# Altium footprint library Motorola Footprints.PcbLib: 408 footprints (part 16 of 26)
Each footprint in its own frame and in the unit in brackets; x right, y up, seen from the top. Pads: shape width x height; smd on the part's side, far side on the other; paste and mask are expansions set on the pad; w line width, h text height; cw(c..) or ccw(c..) is an arc to the next point about the centre after c.
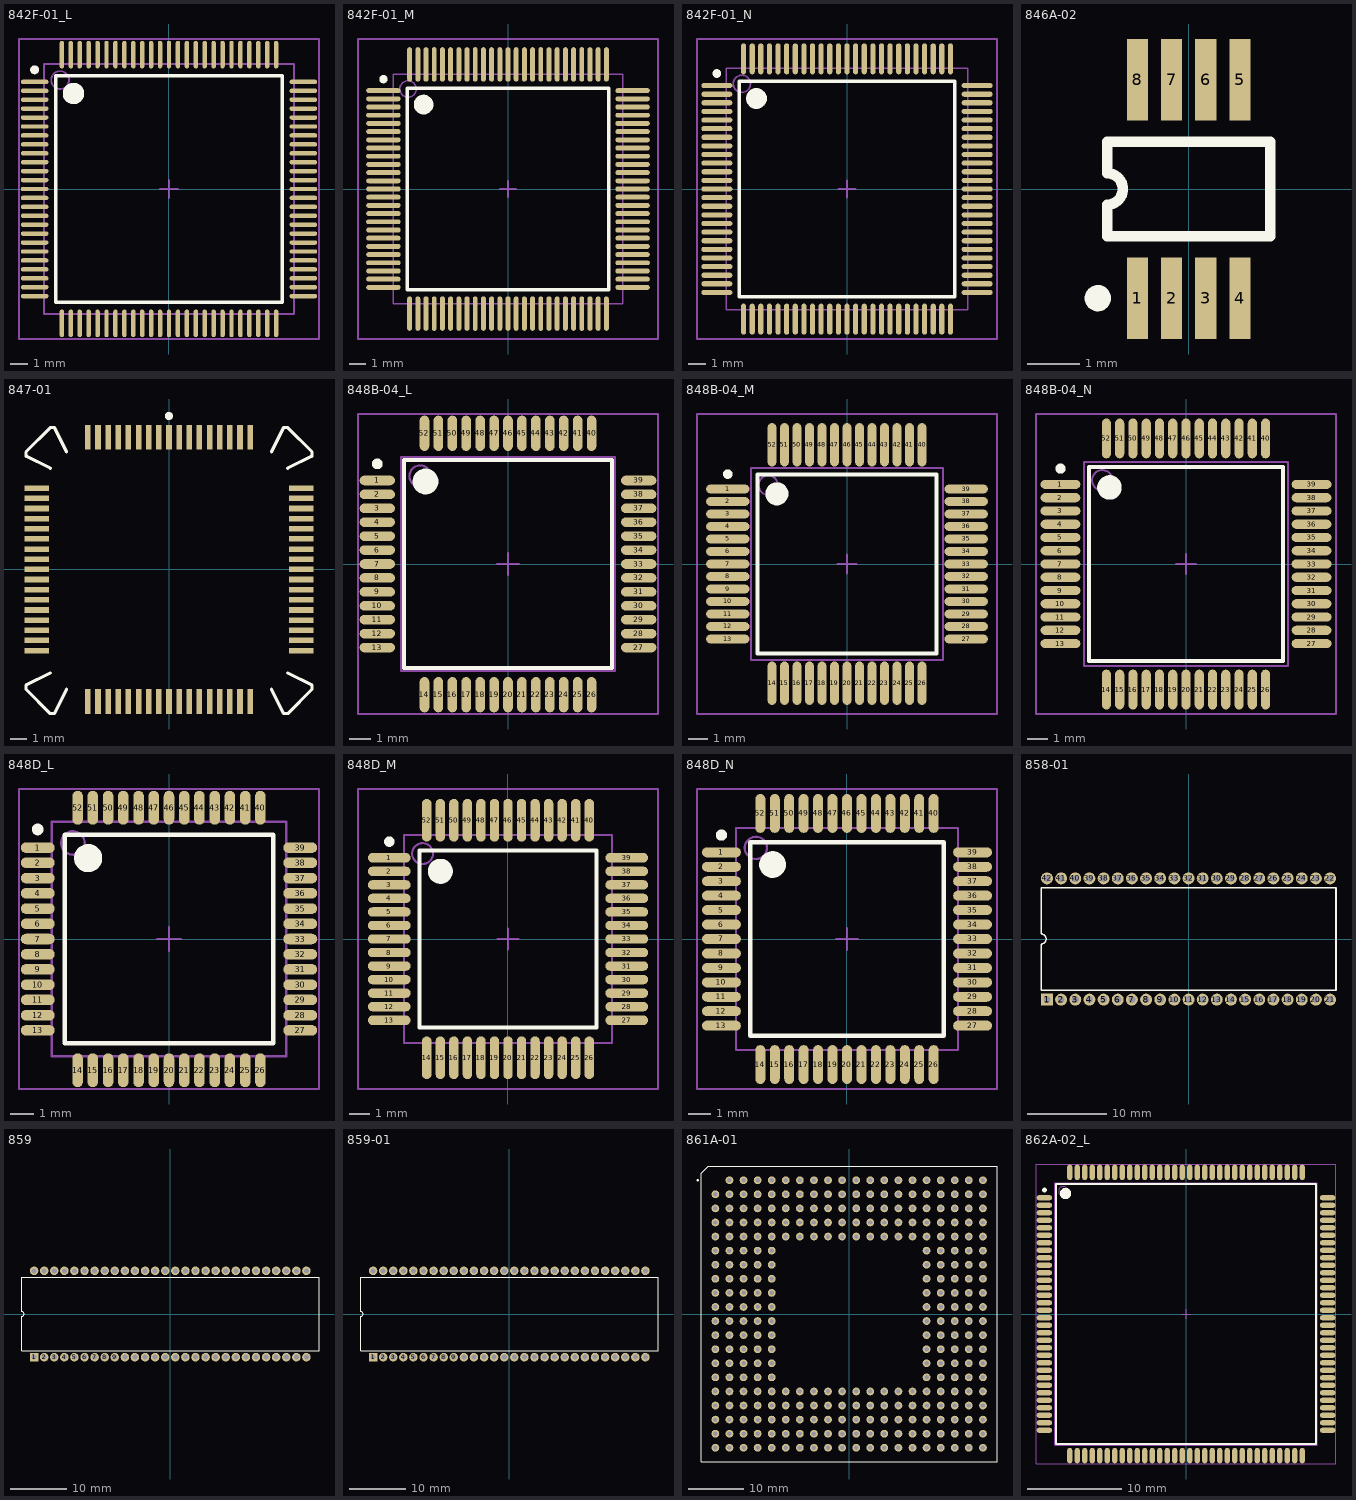
[diagram p15: the footprints below, top view; thin cyan lines are the x and y axes]

## 842F-01_L [mm] "100-Pin Thin Quad Flat Pack 0.5 mm Pitch, IPC High Density"
height 1.6
pads (100):
  oval 1.55x0.25 smd: 1(-7.525,6) 2(-7.525,5.5) 3(-7.525,5) 4(-7.525,4.5) 5(-7.525,4) 6(-7.525,3.5) 7(-7.525,3) 8(-7.525,2.5) 9(-7.525,2) 10(-7.525,1.5) 11(-7.525,1) 12(-7.525,0.5) 13(-7.525,0) 14(-7.525,-0.5) 15(-7.525,-1) 16(-7.525,-1.5) 17(-7.525,-2) 18(-7.525,-2.5) 19(-7.525,-3) 20(-7.525,-3.5) 21(-7.525,-4) 22(-7.525,-4.5) 23(-7.525,-5) 24(-7.525,-5.5) 25(-7.525,-6) 51(7.525,-6) 52(7.525,-5.5) 53(7.525,-5) 54(7.525,-4.5) 55(7.525,-4) 56(7.525,-3.5) 57(7.525,-3) 58(7.525,-2.5) 59(7.525,-2) 60(7.525,-1.5) 61(7.525,-1) 62(7.525,-0.5) 63(7.525,0) 64(7.525,0.5) 65(7.525,1) 66(7.525,1.5) 67(7.525,2) 68(7.525,2.5) 69(7.525,3) 70(7.525,3.5) 71(7.525,4) 72(7.525,4.5) 73(7.525,5) 74(7.525,5.5) 75(7.525,6)
  oval 0.25x1.55 smd: 26(-6,-7.525) 27(-5.5,-7.525) 28(-5,-7.525) 29(-4.5,-7.525) 30(-4,-7.525) 31(-3.5,-7.525) 32(-3,-7.525) 33(-2.5,-7.525) 34(-2,-7.525) 35(-1.5,-7.525) 36(-1,-7.525) 37(-0.5,-7.525) 38(0,-7.525) 39(0.5,-7.525) 40(1,-7.525) 41(1.5,-7.525) 42(2,-7.525) 43(2.5,-7.525) 44(3,-7.525) 45(3.5,-7.525) 46(4,-7.525) 47(4.5,-7.525) 48(5,-7.525) 49(5.5,-7.525) 50(6,-7.525) 76(6,7.525) 77(5.5,7.525) 78(5,7.525) 79(4.5,7.525) 80(4,7.525) 81(3.5,7.525) 82(3,7.525) 83(2.5,7.525) 84(2,7.525) 85(1.5,7.525) 86(1,7.525) 87(0.5,7.525) 88(0,7.525) 89(-0.5,7.525) 90(-1,7.525) 91(-1.5,7.525) 92(-2,7.525) 93(-2.5,7.525) 94(-3,7.525) 95(-3.5,7.525) 96(-4,7.525) 97(-4.5,7.525) 98(-5,7.525) 99(-5.5,7.525) 100(-6,7.525)
Top Overlay:
  circle w0.6: c-5.35,5.35 r0.3
  circle w0.25: c-7.525,6.675 r0.125
  lines w0.2: -6.35,-6.35 6.35,-6.35 6.35,6.35 -6.35,6.35 -6.35,-6.35
Mechanical 13:
  circle w0.1: c-6.1,6.1 r0.5
  lines w0.1: -7,-7 7,-7 7,7 -7,7 -7,-7
Mechanical 15:
  lines w0.1: -0.5,0 0.5,0 ; 0,-0.5 0,0.5 ; -8.4,-8.4 8.4,-8.4 8.4,8.4 -8.4,8.4 -8.4,-8.4
3D body: height 1.6, standoff 0, extent -7,-7 7,7

## 842F-01_M [mm] "100-Pin Thin Quad Flat Pack 0.5 mm Pitch, IPC Low Density"
height 1.6
pads (100):
  oval 2.1x0.3 smd: 1(-7.6,6) 2(-7.6,5.5) 3(-7.6,5) 4(-7.6,4.5) 5(-7.6,4) 6(-7.6,3.5) 7(-7.6,3) 8(-7.6,2.5) 9(-7.6,2) 10(-7.6,1.5) 11(-7.6,1) 12(-7.6,0.5) 13(-7.6,0) 14(-7.6,-0.5) 15(-7.6,-1) 16(-7.6,-1.5) 17(-7.6,-2) 18(-7.6,-2.5) 19(-7.6,-3) 20(-7.6,-3.5) 21(-7.6,-4) 22(-7.6,-4.5) 23(-7.6,-5) 24(-7.6,-5.5) 25(-7.6,-6) 51(7.6,-6) 52(7.6,-5.5) 53(7.6,-5) 54(7.6,-4.5) 55(7.6,-4) 56(7.6,-3.5) 57(7.6,-3) 58(7.6,-2.5) 59(7.6,-2) 60(7.6,-1.5) 61(7.6,-1) 62(7.6,-0.5) 63(7.6,0) 64(7.6,0.5) 65(7.6,1) 66(7.6,1.5) 67(7.6,2) 68(7.6,2.5) 69(7.6,3) 70(7.6,3.5) 71(7.6,4) 72(7.6,4.5) 73(7.6,5) 74(7.6,5.5) 75(7.6,6)
  oval 0.3x2.1 smd: 26(-6,-7.6) 27(-5.5,-7.6) 28(-5,-7.6) 29(-4.5,-7.6) 30(-4,-7.6) 31(-3.5,-7.6) 32(-3,-7.6) 33(-2.5,-7.6) 34(-2,-7.6) 35(-1.5,-7.6) 36(-1,-7.6) 37(-0.5,-7.6) 38(0,-7.6) 39(0.5,-7.6) 40(1,-7.6) 41(1.5,-7.6) 42(2,-7.6) 43(2.5,-7.6) 44(3,-7.6) 45(3.5,-7.6) 46(4,-7.6) 47(4.5,-7.6) 48(5,-7.6) 49(5.5,-7.6) 50(6,-7.6) 76(6,7.6) 77(5.5,7.6) 78(5,7.6) 79(4.5,7.6) 80(4,7.6) 81(3.5,7.6) 82(3,7.6) 83(2.5,7.6) 84(2,7.6) 85(1.5,7.6) 86(1,7.6) 87(0.5,7.6) 88(0,7.6) 89(-0.5,7.6) 90(-1,7.6) 91(-1.5,7.6) 92(-2,7.6) 93(-2.5,7.6) 94(-3,7.6) 95(-3.5,7.6) 96(-4,7.6) 97(-4.5,7.6) 98(-5,7.6) 99(-5.5,7.6) 100(-6,7.6)
Top Overlay:
  circle w0.6: c-5.15,5.15 r0.3
  circle w0.25: c-7.6,6.7 r0.125
  lines w0.2: -6.15,-6.15 6.15,-6.15 6.15,6.15 -6.15,6.15 -6.15,-6.15
Mechanical 13:
  circle w0.1: c-6.1,6.1 r0.5
  lines w0.1: -7,-7 7,-7 7,7 -7,7 -7,-7
Mechanical 15:
  lines w0.1: -0.5,0 0.5,0 ; 0,-0.5 0,0.5 ; -9.15,-9.15 9.15,-9.15 9.15,9.15 -9.15,9.15 -9.15,-9.15
3D body: height 1.6, standoff 0, extent -7,-7 7,7

## 842F-01_N [mm] "100-Pin Thin Quad Flat Pack 0.5 mm Pitch, IPC Medium Density"
height 1.6
pads (100):
  oval 1.8x0.3 smd: 1(-7.55,6) 2(-7.55,5.5) 3(-7.55,5) 4(-7.55,4.5) 5(-7.55,4) 6(-7.55,3.5) 7(-7.55,3) 8(-7.55,2.5) 9(-7.55,2) 10(-7.55,1.5) 11(-7.55,1) 12(-7.55,0.5) 13(-7.55,0) 14(-7.55,-0.5) 15(-7.55,-1) 16(-7.55,-1.5) 17(-7.55,-2) 18(-7.55,-2.5) 19(-7.55,-3) 20(-7.55,-3.5) 21(-7.55,-4) 22(-7.55,-4.5) 23(-7.55,-5) 24(-7.55,-5.5) 25(-7.55,-6) 51(7.55,-6) 52(7.55,-5.5) 53(7.55,-5) 54(7.55,-4.5) 55(7.55,-4) 56(7.55,-3.5) 57(7.55,-3) 58(7.55,-2.5) 59(7.55,-2) 60(7.55,-1.5) 61(7.55,-1) 62(7.55,-0.5) 63(7.55,0) 64(7.55,0.5) 65(7.55,1) 66(7.55,1.5) 67(7.55,2) 68(7.55,2.5) 69(7.55,3) 70(7.55,3.5) 71(7.55,4) 72(7.55,4.5) 73(7.55,5) 74(7.55,5.5) 75(7.55,6)
  oval 0.3x1.8 smd: 26(-6,-7.55) 27(-5.5,-7.55) 28(-5,-7.55) 29(-4.5,-7.55) 30(-4,-7.55) 31(-3.5,-7.55) 32(-3,-7.55) 33(-2.5,-7.55) 34(-2,-7.55) 35(-1.5,-7.55) 36(-1,-7.55) 37(-0.5,-7.55) 38(0,-7.55) 39(0.5,-7.55) 40(1,-7.55) 41(1.5,-7.55) 42(2,-7.55) 43(2.5,-7.55) 44(3,-7.55) 45(3.5,-7.55) 46(4,-7.55) 47(4.5,-7.55) 48(5,-7.55) 49(5.5,-7.55) 50(6,-7.55) 76(6,7.55) 77(5.5,7.55) 78(5,7.55) 79(4.5,7.55) 80(4,7.55) 81(3.5,7.55) 82(3,7.55) 83(2.5,7.55) 84(2,7.55) 85(1.5,7.55) 86(1,7.55) 87(0.5,7.55) 88(0,7.55) 89(-0.5,7.55) 90(-1,7.55) 91(-1.5,7.55) 92(-2,7.55) 93(-2.5,7.55) 94(-3,7.55) 95(-3.5,7.55) 96(-4,7.55) 97(-4.5,7.55) 98(-5,7.55) 99(-5.5,7.55) 100(-6,7.55)
Top Overlay:
  circle w0.6: c-5.25,5.25 r0.3
  circle w0.25: c-7.55,6.7 r0.125
  lines w0.2: -6.25,-6.25 6.25,-6.25 6.25,6.25 -6.25,6.25 -6.25,-6.25
Mechanical 13:
  circle w0.1: c-6.1,6.1 r0.5
  lines w0.1: -7,-7 7,-7 7,7 -7,7 -7,-7
Mechanical 15:
  lines w0.1: -0.5,0 0.5,0 ; 0,-0.5 0,0.5 ; -8.7,-8.7 8.7,-8.7 8.7,8.7 -8.7,8.7 -8.7,-8.7
3D body: height 1.6, standoff 0, extent -7,-7 7,7

## 846A-02 [mm] "Shrink Small Outline; 8 Leads; Body Width 3 mm; Pitch 0.65 mm"
height 1.1
pads (8):
  rect 0.4x1.55 smd: 1(-0.975,-2.075) 2(-0.325,-2.075) 3(0.325,-2.075) 4(0.975,-2.075) 5(0.975,2.075) 6(0.325,2.075) 7(-0.325,2.075) 8(-0.975,2.075)
Top Overlay:
  circle w0.25: c-1.725,-2.075 r0.125
  lines w0.2: -1.55,-0.9 1.55,-0.9 1.55,0.9 -1.55,0.9 -1.55,0.3 cw(c-1.55,0) -1.55,-0.3 -1.55,-0.9

## 847-01 [mm] "PQFP; 68 Leads; Body 14 x 14 mm; Pitch 0.635 mm"
height 3.04
pads (68):
  rect 0.35x1.55 smd: 1(0,8.275) 2(-0.635,8.275) 3(-1.27,8.275) 4(-1.905,8.275) 5(-2.54,8.275) 6(-3.175,8.275) 7(-3.81,8.275) 8(-4.445,8.275) 9(-5.08,8.275) 27(-5.08,-8.275) 28(-4.445,-8.275) 29(-3.81,-8.275) 30(-3.175,-8.275) 31(-2.54,-8.275) 32(-1.905,-8.275) 33(-1.27,-8.275) 34(-0.635,-8.275) 35(0,-8.275) 36(0.635,-8.275) 37(1.27,-8.275) 38(1.905,-8.275) 39(2.54,-8.275) 40(3.175,-8.275) 41(3.81,-8.275) 42(4.445,-8.275) 43(5.08,-8.275) 61(5.08,8.275) 62(4.445,8.275) 63(3.81,8.275) 64(3.175,8.275) 65(2.54,8.275) 66(1.905,8.275) 67(1.27,8.275) 68(0.635,8.275)
  rect 1.55x0.35 smd: 10(-8.275,5.08) 11(-8.275,4.445) 12(-8.275,3.81) 13(-8.275,3.175) 14(-8.275,2.54) 15(-8.275,1.905) 16(-8.275,1.27) 17(-8.275,0.635) 18(-8.275,0) 19(-8.275,-0.635) 20(-8.275,-1.27) 21(-8.275,-1.905) 22(-8.275,-2.54) 23(-8.275,-3.175) 24(-8.275,-3.81) 25(-8.275,-4.445) 26(-8.275,-5.08) 44(8.275,-5.08) 45(8.275,-4.445) 46(8.275,-3.81) 47(8.275,-3.175) 48(8.275,-2.54) 49(8.275,-1.905) 50(8.275,-1.27) 51(8.275,-0.635) 52(8.275,0) 53(8.275,0.635) 54(8.275,1.27) 55(8.275,1.905) 56(8.275,2.54) 57(8.275,3.175) 58(8.275,3.81) 59(8.275,4.445) 60(8.275,5.08)
Top Overlay:
  circle w0.25: c0,9.6 r0.125
  lines w0.2: -8.95,-7.247 -7.426,-6.485 ; -8.95,-7.229 -8.95,-7.501 -7.426,-9.025 -7.172,-9.025 -6.41,-7.501 ; -8.95,7.079 -8.95,7.351 -7.426,8.875 -7.172,8.875 -6.41,7.351 ; -8.95,7.097 -7.426,6.335 ; 6.41,-7.501 7.172,-9.025 7.426,-9.025 8.95,-7.501 8.95,-7.229 ; 6.41,7.351 7.172,8.875 7.426,8.875 8.95,7.351 8.95,7.079 ; 7.426,-6.485 8.95,-7.247 ; 7.426,6.335 8.95,7.097

## 848B-04_L [mm] "52-Pin Quad Flat Pack 0.65 mm Pitch, IPC High Density"
height 2.45
pads (52):
  oval 1.65x0.45 smd: 1(-6.1,3.9) 2(-6.1,3.25) 3(-6.1,2.6) 4(-6.1,1.95) 5(-6.1,1.3) 6(-6.1,0.65) 7(-6.1,0) 8(-6.1,-0.65) 9(-6.1,-1.3) 10(-6.1,-1.95) 11(-6.1,-2.6) 12(-6.1,-3.25) 13(-6.1,-3.9) 27(6.1,-3.9) 28(6.1,-3.25) 29(6.1,-2.6) 30(6.1,-1.95) 31(6.1,-1.3) 32(6.1,-0.65) 33(6.1,0) 34(6.1,0.65) 35(6.1,1.3) 36(6.1,1.95) 37(6.1,2.6) 38(6.1,3.25) 39(6.1,3.9)
  oval 0.45x1.65 smd: 14(-3.9,-6.1) 15(-3.25,-6.1) 16(-2.6,-6.1) 17(-1.95,-6.1) 18(-1.3,-6.1) 19(-0.65,-6.1) 20(0,-6.1) 21(0.65,-6.1) 22(1.3,-6.1) 23(1.95,-6.1) 24(2.6,-6.1) 25(3.25,-6.1) 26(3.9,-6.1) 40(3.9,6.1) 41(3.25,6.1) 42(2.6,6.1) 43(1.95,6.1) 44(1.3,6.1) 45(0.65,6.1) 46(0,6.1) 47(-0.65,6.1) 48(-1.3,6.1) 49(-1.95,6.1) 50(-2.6,6.1) 51(-3.25,6.1) 52(-3.9,6.1)
Top Overlay:
  circle w0.6: c-3.85,3.85 r0.3
  circle w0.25: c-6.1,4.675 r0.125
  lines w0.2: -4.85,-4.85 4.85,-4.85 4.85,4.85 -4.85,4.85 -4.85,-4.85
Mechanical 13:
  circle w0.1: c-4.1,4.1 r0.5
  lines w0.1: -5,-5 5,-5 5,5 -5,5 -5,-5
Mechanical 15:
  lines w0.1: -0.5,0 0.5,0 ; 0,-0.5 0,0.5 ; -7,-7 7,-7 7,7 -7,7 -7,-7
3D body: height 2.45, standoff 0, extent -5,-5 5,5

## 848B-04_M [mm] "52-Pin Quad Flat Pack 0.65 mm Pitch, IPC Low Density"
height 2.45
pads (52):
  oval 2.25x0.45 smd: 1(-6.2,3.9) 2(-6.2,3.25) 3(-6.2,2.6) 4(-6.2,1.95) 5(-6.2,1.3) 6(-6.2,0.65) 7(-6.2,0) 8(-6.2,-0.65) 9(-6.2,-1.3) 10(-6.2,-1.95) 11(-6.2,-2.6) 12(-6.2,-3.25) 13(-6.2,-3.9) 27(6.2,-3.9) 28(6.2,-3.25) 29(6.2,-2.6) 30(6.2,-1.95) 31(6.2,-1.3) 32(6.2,-0.65) 33(6.2,0) 34(6.2,0.65) 35(6.2,1.3) 36(6.2,1.95) 37(6.2,2.6) 38(6.2,3.25) 39(6.2,3.9)
  oval 0.45x2.25 smd: 14(-3.9,-6.2) 15(-3.25,-6.2) 16(-2.6,-6.2) 17(-1.95,-6.2) 18(-1.3,-6.2) 19(-0.65,-6.2) 20(0,-6.2) 21(0.65,-6.2) 22(1.3,-6.2) 23(1.95,-6.2) 24(2.6,-6.2) 25(3.25,-6.2) 26(3.9,-6.2) 40(3.9,6.2) 41(3.25,6.2) 42(2.6,6.2) 43(1.95,6.2) 44(1.3,6.2) 45(0.65,6.2) 46(0,6.2) 47(-0.65,6.2) 48(-1.3,6.2) 49(-1.95,6.2) 50(-2.6,6.2) 51(-3.25,6.2) 52(-3.9,6.2)
Top Overlay:
  circle w0.6: c-3.65,3.65 r0.3
  circle w0.25: c-6.2,4.675 r0.125
  lines w0.2: -4.65,-4.65 4.65,-4.65 4.65,4.65 -4.65,4.65 -4.65,-4.65
Mechanical 13:
  circle w0.1: c-4.1,4.1 r0.5
  lines w0.1: -5,-5 5,-5 5,5 -5,5 -5,-5
Mechanical 15:
  lines w0.1: -0.5,0 0.5,0 ; 0,-0.5 0,0.5 ; -7.8,-7.8 7.8,-7.8 7.8,7.8 -7.8,7.8 -7.8,-7.8
3D body: height 2.45, standoff 0, extent -5,-5 5,5

## 848B-04_N [mm] "52-Pin Quad Flat Pack 0.65 mm Pitch, IPC Medium Density"
height 2.45
pads (52):
  oval 1.95x0.45 smd: 1(-6.15,3.9) 2(-6.15,3.25) 3(-6.15,2.6) 4(-6.15,1.95) 5(-6.15,1.3) 6(-6.15,0.65) 7(-6.15,0) 8(-6.15,-0.65) 9(-6.15,-1.3) 10(-6.15,-1.95) 11(-6.15,-2.6) 12(-6.15,-3.25) 13(-6.15,-3.9) 27(6.15,-3.9) 28(6.15,-3.25) 29(6.15,-2.6) 30(6.15,-1.95) 31(6.15,-1.3) 32(6.15,-0.65) 33(6.15,0) 34(6.15,0.65) 35(6.15,1.3) 36(6.15,1.95) 37(6.15,2.6) 38(6.15,3.25) 39(6.15,3.9)
  oval 0.45x1.95 smd: 14(-3.9,-6.15) 15(-3.25,-6.15) 16(-2.6,-6.15) 17(-1.95,-6.15) 18(-1.3,-6.15) 19(-0.65,-6.15) 20(0,-6.15) 21(0.65,-6.15) 22(1.3,-6.15) 23(1.95,-6.15) 24(2.6,-6.15) 25(3.25,-6.15) 26(3.9,-6.15) 40(3.9,6.15) 41(3.25,6.15) 42(2.6,6.15) 43(1.95,6.15) 44(1.3,6.15) 45(0.65,6.15) 46(0,6.15) 47(-0.65,6.15) 48(-1.3,6.15) 49(-1.95,6.15) 50(-2.6,6.15) 51(-3.25,6.15) 52(-3.9,6.15)
Top Overlay:
  circle w0.6: c-3.75,3.75 r0.3
  circle w0.25: c-6.15,4.675 r0.125
  lines w0.2: -4.75,-4.75 4.75,-4.75 4.75,4.75 -4.75,4.75 -4.75,-4.75
Mechanical 13:
  circle w0.1: c-4.1,4.1 r0.5
  lines w0.1: -5,-5 5,-5 5,5 -5,5 -5,-5
Mechanical 15:
  lines w0.1: -0.5,0 0.5,0 ; 0,-0.5 0,0.5 ; -7.35,-7.35 7.35,-7.35 7.35,7.35 -7.35,7.35 -7.35,-7.35
3D body: height 2.45, standoff 0, extent -5,-5 5,5

## 848D_L [mm] "52-Pin Quad Flat Pack 0.65 mm Pitch, IPC High Density"
height 1.7
pads (52):
  oval 1.45x0.45 smd: 1(-5.6,3.9) 2(-5.6,3.25) 3(-5.6,2.6) 4(-5.6,1.95) 5(-5.6,1.3) 6(-5.6,0.65) 7(-5.6,0) 8(-5.6,-0.65) 9(-5.6,-1.3) 10(-5.6,-1.95) 11(-5.6,-2.6) 12(-5.6,-3.25) 13(-5.6,-3.9) 27(5.6,-3.9) 28(5.6,-3.25) 29(5.6,-2.6) 30(5.6,-1.95) 31(5.6,-1.3) 32(5.6,-0.65) 33(5.6,0) 34(5.6,0.65) 35(5.6,1.3) 36(5.6,1.95) 37(5.6,2.6) 38(5.6,3.25) 39(5.6,3.9)
  oval 0.45x1.45 smd: 14(-3.9,-5.6) 15(-3.25,-5.6) 16(-2.6,-5.6) 17(-1.95,-5.6) 18(-1.3,-5.6) 19(-0.65,-5.6) 20(0,-5.6) 21(0.65,-5.6) 22(1.3,-5.6) 23(1.95,-5.6) 24(2.6,-5.6) 25(3.25,-5.6) 26(3.9,-5.6) 40(3.9,5.6) 41(3.25,5.6) 42(2.6,5.6) 43(1.95,5.6) 44(1.3,5.6) 45(0.65,5.6) 46(0,5.6) 47(-0.65,5.6) 48(-1.3,5.6) 49(-1.95,5.6) 50(-2.6,5.6) 51(-3.25,5.6) 52(-3.9,5.6)
Top Overlay:
  circle w0.6: c-3.45,3.45 r0.3
  circle w0.25: c-5.6,4.675 r0.125
  lines w0.2: -4.45,-4.45 4.45,-4.45 4.45,4.45 -4.45,4.45 -4.45,-4.45
Mechanical 13:
  circle w0.1: c-4.1,4.1 r0.5
  lines w0.1: -5,-5 5,-5 5,5 -5,5 -5,-5
Mechanical 15:
  lines w0.1: -0.5,0 0.5,0 ; 0,-0.5 0,0.5 ; -6.4,-6.4 6.4,-6.4 6.4,6.4 -6.4,6.4 -6.4,-6.4
3D body: height 1.7, standoff 0, extent -5,-5 5,5

## 848D_M [mm] "52-Pin Quad Flat Pack 0.65 mm Pitch, IPC Low Density"
height 1.7
pads (52):
  oval 2.05x0.45 smd: 1(-5.7,3.9) 2(-5.7,3.25) 3(-5.7,2.6) 4(-5.7,1.95) 5(-5.7,1.3) 6(-5.7,0.65) 7(-5.7,0) 8(-5.7,-0.65) 9(-5.7,-1.3) 10(-5.7,-1.95) 11(-5.7,-2.6) 12(-5.7,-3.25) 13(-5.7,-3.9) 27(5.7,-3.9) 28(5.7,-3.25) 29(5.7,-2.6) 30(5.7,-1.95) 31(5.7,-1.3) 32(5.7,-0.65) 33(5.7,0) 34(5.7,0.65) 35(5.7,1.3) 36(5.7,1.95) 37(5.7,2.6) 38(5.7,3.25) 39(5.7,3.9)
  oval 0.45x2.05 smd: 14(-3.9,-5.7) 15(-3.25,-5.7) 16(-2.6,-5.7) 17(-1.95,-5.7) 18(-1.3,-5.7) 19(-0.65,-5.7) 20(0,-5.7) 21(0.65,-5.7) 22(1.3,-5.7) 23(1.95,-5.7) 24(2.6,-5.7) 25(3.25,-5.7) 26(3.9,-5.7) 40(3.9,5.7) 41(3.25,5.7) 42(2.6,5.7) 43(1.95,5.7) 44(1.3,5.7) 45(0.65,5.7) 46(0,5.7) 47(-0.65,5.7) 48(-1.3,5.7) 49(-1.95,5.7) 50(-2.6,5.7) 51(-3.25,5.7) 52(-3.9,5.7)
Top Overlay:
  circle w0.6: c-3.25,3.25 r0.3
  circle w0.25: c-5.7,4.675 r0.125
  lines w0.2: -4.25,-4.25 4.25,-4.25 4.25,4.25 -4.25,4.25 -4.25,-4.25
Mechanical 13:
  circle w0.1: c-4.1,4.1 r0.5
  lines w0.1: -5,-5 5,-5 5,5 -5,5 -5,-5
Mechanical 15:
  lines w0.1: -0.5,0 0.5,0 ; 0,-0.5 0,0.5 ; -7.2,-7.2 7.2,-7.2 7.2,7.2 -7.2,7.2 -7.2,-7.2
3D body: height 1.7, standoff 0, extent -5,-5 5,5

## 848D_N [mm] "52-Pin Quad Flat Pack 0.65 mm Pitch, IPC Medium Density"
height 1.7
pads (52):
  oval 1.75x0.45 smd: 1(-5.65,3.9) 2(-5.65,3.25) 3(-5.65,2.6) 4(-5.65,1.95) 5(-5.65,1.3) 6(-5.65,0.65) 7(-5.65,0) 8(-5.65,-0.65) 9(-5.65,-1.3) 10(-5.65,-1.95) 11(-5.65,-2.6) 12(-5.65,-3.25) 13(-5.65,-3.9) 27(5.65,-3.9) 28(5.65,-3.25) 29(5.65,-2.6) 30(5.65,-1.95) 31(5.65,-1.3) 32(5.65,-0.65) 33(5.65,0) 34(5.65,0.65) 35(5.65,1.3) 36(5.65,1.95) 37(5.65,2.6) 38(5.65,3.25) 39(5.65,3.9)
  oval 0.45x1.75 smd: 14(-3.9,-5.65) 15(-3.25,-5.65) 16(-2.6,-5.65) 17(-1.95,-5.65) 18(-1.3,-5.65) 19(-0.65,-5.65) 20(0,-5.65) 21(0.65,-5.65) 22(1.3,-5.65) 23(1.95,-5.65) 24(2.6,-5.65) 25(3.25,-5.65) 26(3.9,-5.65) 40(3.9,5.65) 41(3.25,5.65) 42(2.6,5.65) 43(1.95,5.65) 44(1.3,5.65) 45(0.65,5.65) 46(0,5.65) 47(-0.65,5.65) 48(-1.3,5.65) 49(-1.95,5.65) 50(-2.6,5.65) 51(-3.25,5.65) 52(-3.9,5.65)
Top Overlay:
  circle w0.6: c-3.35,3.35 r0.3
  circle w0.25: c-5.65,4.675 r0.125
  lines w0.2: -4.35,-4.35 4.35,-4.35 4.35,4.35 -4.35,4.35 -4.35,-4.35
Mechanical 13:
  circle w0.1: c-4.1,4.1 r0.5
  lines w0.1: -5,-5 5,-5 5,5 -5,5 -5,-5
Mechanical 15:
  lines w0.1: -0.5,0 0.5,0 ; 0,-0.5 0,0.5 ; -6.75,-6.75 6.75,-6.75 6.75,6.75 -6.75,6.75 -6.75,-6.75
3D body: height 1.7, standoff 0, extent -5,-5 5,5

## 858-01 [mm] "DIP, Plastic; 42 Leads; Row Spacing 15.24 mm; Pitch 1.778 mm"
height 5.08
pads (42):
  rect 1.5x1.5 hole 0.9: 1(-17.8,-7.62)
  round 1.5 hole 0.9: 2(-16.02,-7.62) 3(-14.24,-7.62) 4(-12.46,-7.62) 5(-10.68,-7.62) 6(-8.9,-7.62) 7(-7.12,-7.62) 8(-5.34,-7.62) 9(-3.56,-7.62) 10(-1.78,-7.62) 11(0,-7.62) 12(1.78,-7.62) 13(3.56,-7.62) 14(5.34,-7.62) 15(7.12,-7.62) 16(8.9,-7.62) 17(10.68,-7.62) 18(12.46,-7.62) 19(14.24,-7.62) 20(16.02,-7.62) 21(17.8,-7.62) 22(17.8,7.62) 23(16.02,7.62) 24(14.24,7.62) 25(12.46,7.62) 26(10.68,7.62) 27(8.9,7.62) 28(7.12,7.62) 29(5.34,7.62) 30(3.56,7.62) 31(1.78,7.62) 32(0,7.62) 33(-1.78,7.62) 34(-3.56,7.62) 35(-5.34,7.62) 36(-7.12,7.62) 37(-8.9,7.62) 38(-10.68,7.62) 39(-12.46,7.62) 40(-14.24,7.62) 41(-16.02,7.62) 42(-17.8,7.62)
Top Overlay:
  lines w0.2: -18.55,-6.45 18.55,-6.45 18.55,6.45 -18.55,6.45 -18.55,0.635 cw(c-18.55,0) -18.55,-0.635 -18.55,-6.45

## 859 [mm] "DIP; 56 Leads; Row Spacing 15.24 mm; Pitch 1.778 mm"
height 5.08
pads (56):
  rect 1.5x1.5 hole 0.9: 1(-24.03,-7.62)
  round 1.5 hole 0.9: 2(-22.25,-7.62) 3(-20.47,-7.62) 4(-18.69,-7.62) 5(-16.91,-7.62) 6(-15.13,-7.62) 7(-13.35,-7.62) 8(-11.57,-7.62) 9(-9.79,-7.62) 10(-8.01,-7.62) 11(-6.23,-7.62) 12(-4.45,-7.62) 13(-2.67,-7.62) 14(-0.89,-7.62) 15(0.89,-7.62) 16(2.67,-7.62) 17(4.45,-7.62) 18(6.23,-7.62) 19(8.01,-7.62) 20(9.79,-7.62) 21(11.57,-7.62) 22(13.35,-7.62) 23(15.13,-7.62) 24(16.91,-7.62) 25(18.69,-7.62) 26(20.47,-7.62) 27(22.25,-7.62) 28(24.03,-7.62) 29(24.03,7.62) 30(22.25,7.62) 31(20.47,7.62) 32(18.69,7.62) 33(16.91,7.62) 34(15.13,7.62) 35(13.35,7.62) 36(11.57,7.62) 37(9.79,7.62) 38(8.01,7.62) 39(6.23,7.62) 40(4.45,7.62) 41(2.67,7.62) 42(0.89,7.62) 43(-0.89,7.62) 44(-2.67,7.62) 45(-4.45,7.62) 46(-6.23,7.62) 47(-8.01,7.62) 48(-9.79,7.62) 49(-11.57,7.62) 50(-13.35,7.62) 51(-15.13,7.62) 52(-16.91,7.62) 53(-18.69,7.62) 54(-20.47,7.62) 55(-22.25,7.62) 56(-24.03,7.62)
Top Overlay:
  lines w0.2: -26.25,-6.45 26.25,-6.45 26.25,6.45 -26.25,6.45 -26.25,0.445 cw(c-26.25,0) -26.25,-0.445 -26.25,-6.45

## 859-01 [mm] "DIP; 56 Leads; Row Spacing 15.24 mm; Pitch 1.778 mm"
height 5.08
pads (56):
  rect 1.5x1.5 hole 0.9: 1(-24.03,-7.62)
  round 1.5 hole 0.9: 2(-22.25,-7.62) 3(-20.47,-7.62) 4(-18.69,-7.62) 5(-16.91,-7.62) 6(-15.13,-7.62) 7(-13.35,-7.62) 8(-11.57,-7.62) 9(-9.79,-7.62) 10(-8.01,-7.62) 11(-6.23,-7.62) 12(-4.45,-7.62) 13(-2.67,-7.62) 14(-0.89,-7.62) 15(0.89,-7.62) 16(2.67,-7.62) 17(4.45,-7.62) 18(6.23,-7.62) 19(8.01,-7.62) 20(9.79,-7.62) 21(11.57,-7.62) 22(13.35,-7.62) 23(15.13,-7.62) 24(16.91,-7.62) 25(18.69,-7.62) 26(20.47,-7.62) 27(22.25,-7.62) 28(24.03,-7.62) 29(24.03,7.62) 30(22.25,7.62) 31(20.47,7.62) 32(18.69,7.62) 33(16.91,7.62) 34(15.13,7.62) 35(13.35,7.62) 36(11.57,7.62) 37(9.79,7.62) 38(8.01,7.62) 39(6.23,7.62) 40(4.45,7.62) 41(2.67,7.62) 42(0.89,7.62) 43(-0.89,7.62) 44(-2.67,7.62) 45(-4.45,7.62) 46(-6.23,7.62) 47(-8.01,7.62) 48(-9.79,7.62) 49(-11.57,7.62) 50(-13.35,7.62) 51(-15.13,7.62) 52(-16.91,7.62) 53(-18.69,7.62) 54(-20.47,7.62) 55(-22.25,7.62) 56(-24.03,7.62)
Top Overlay:
  lines w0.2: -26.25,-6.45 26.25,-6.45 26.25,6.45 -26.25,6.45 -26.25,0.445 cw(c-26.25,0) -26.25,-0.445 -26.25,-6.45

## 861A-01 [mm] "299-Pin Pin Grid Array 2.54 mm Pitch"
height 5.08
pads (299):
  round 1.4 hole 0.8: A2(-21.59,24.13) A3(-19.05,24.13) A4(-16.51,24.13) A5(-13.97,24.13) A6(-11.43,24.13) A7(-8.89,24.13) A8(-6.35,24.13) A9(-3.81,24.13) A10(-1.27,24.13) A11(1.27,24.13) A12(3.81,24.13) A13(6.35,24.13) A14(8.89,24.13) A15(11.43,24.13) A16(13.97,24.13) A17(16.51,24.13) A18(19.05,24.13) A19(21.59,24.13) A20(24.13,24.13) B1(-24.13,21.59) B2(-21.59,21.59) B3(-19.05,21.59) B4(-16.51,21.59) B5(-13.97,21.59) B6(-11.43,21.59) B7(-8.89,21.59) B8(-6.35,21.59) B9(-3.81,21.59) B10(-1.27,21.59) B11(1.27,21.59) B12(3.81,21.59) B13(6.35,21.59) B14(8.89,21.59) B15(11.43,21.59) B16(13.97,21.59) B17(16.51,21.59) B18(19.05,21.59) B19(21.59,21.59) B20(24.13,21.59) C1(-24.13,19.05) C2(-21.59,19.05) C3(-19.05,19.05) C4(-16.51,19.05) C5(-13.97,19.05) C6(-11.43,19.05) C7(-8.89,19.05) C8(-6.35,19.05) C9(-3.81,19.05) C10(-1.27,19.05) C11(1.27,19.05) C12(3.81,19.05) C13(6.35,19.05) C14(8.89,19.05) C15(11.43,19.05) C16(13.97,19.05) C17(16.51,19.05) C18(19.05,19.05) C19(21.59,19.05) C20(24.13,19.05) D1(-24.13,16.51) D2(-21.59,16.51) D3(-19.05,16.51) D4(-16.51,16.51) D5(-13.97,16.51) D6(-11.43,16.51) D7(-8.89,16.51) D8(-6.35,16.51) D9(-3.81,16.51) D10(-1.27,16.51) D11(1.27,16.51) D12(3.81,16.51) D13(6.35,16.51) D14(8.89,16.51) D15(11.43,16.51) D16(13.97,16.51) D17(16.51,16.51) D18(19.05,16.51) D19(21.59,16.51) D20(24.13,16.51) E1(-24.13,13.97) E2(-21.59,13.97) E3(-19.05,13.97) E4(-16.51,13.97) E5(-13.97,13.97) E6(-11.43,13.97) E7(-8.89,13.97) E8(-6.35,13.97) E9(-3.81,13.97) E10(-1.27,13.97) E11(1.27,13.97) E12(3.81,13.97) E13(6.35,13.97) E14(8.89,13.97) E15(11.43,13.97) E16(13.97,13.97) E17(16.51,13.97) E18(19.05,13.97) E19(21.59,13.97) E20(24.13,13.97) F1(-24.13,11.43) F2(-21.59,11.43) F3(-19.05,11.43) F4(-16.51,11.43) F5(-13.97,11.43) F16(13.97,11.43) F17(16.51,11.43) F18(19.05,11.43) F19(21.59,11.43) F20(24.13,11.43) G1(-24.13,8.89) G2(-21.59,8.89) G3(-19.05,8.89) G4(-16.51,8.89) G5(-13.97,8.89) G16(13.97,8.89) G17(16.51,8.89) G18(19.05,8.89) G19(21.59,8.89) G20(24.13,8.89) H1(-24.13,6.35) H2(-21.59,6.35) H3(-19.05,6.35) H4(-16.51,6.35) H5(-13.97,6.35) H16(13.97,6.35) H17(16.51,6.35) H18(19.05,6.35) H19(21.59,6.35) H20(24.13,6.35) J1(-24.13,3.81) J2(-21.59,3.81) J3(-19.05,3.81) J4(-16.51,3.81) J5(-13.97,3.81) J16(13.97,3.81) J17(16.51,3.81) J18(19.05,3.81) J19(21.59,3.81) J20(24.13,3.81) K1(-24.13,1.27) K2(-21.59,1.27) K3(-19.05,1.27) K4(-16.51,1.27) K5(-13.97,1.27) K16(13.97,1.27) K17(16.51,1.27) K18(19.05,1.27) K19(21.59,1.27) K20(24.13,1.27) L1(-24.13,-1.27) L2(-21.59,-1.27) L3(-19.05,-1.27) L4(-16.51,-1.27) L5(-13.97,-1.27) L16(13.97,-1.27) L17(16.51,-1.27) L18(19.05,-1.27) L19(21.59,-1.27) L20(24.13,-1.27) M1(-24.13,-3.81) M2(-21.59,-3.81) M3(-19.05,-3.81) M4(-16.51,-3.81) M5(-13.97,-3.81) M16(13.97,-3.81) M17(16.51,-3.81) M18(19.05,-3.81) M19(21.59,-3.81) M20(24.13,-3.81) N1(-24.13,-6.35) N2(-21.59,-6.35) N3(-19.05,-6.35) N4(-16.51,-6.35) N5(-13.97,-6.35) N16(13.97,-6.35) N17(16.51,-6.35) N18(19.05,-6.35) N19(21.59,-6.35) N20(24.13,-6.35) P1(-24.13,-8.89) P2(-21.59,-8.89) P3(-19.05,-8.89) P4(-16.51,-8.89) P5(-13.97,-8.89) P16(13.97,-8.89) P17(16.51,-8.89) P18(19.05,-8.89) P19(21.59,-8.89) P20(24.13,-8.89) R1(-24.13,-11.43) R2(-21.59,-11.43) R3(-19.05,-11.43) R4(-16.51,-11.43) R5(-13.97,-11.43) R16(13.97,-11.43) R17(16.51,-11.43) R18(19.05,-11.43) R19(21.59,-11.43) R20(24.13,-11.43) T1(-24.13,-13.97) T2(-21.59,-13.97) T3(-19.05,-13.97) T4(-16.51,-13.97) T5(-13.97,-13.97) T6(-11.43,-13.97) T7(-8.89,-13.97) T8(-6.35,-13.97) T9(-3.81,-13.97) T10(-1.27,-13.97) T11(1.27,-13.97) T12(3.81,-13.97) T13(6.35,-13.97) T14(8.89,-13.97) T15(11.43,-13.97) T16(13.97,-13.97) T17(16.51,-13.97) T18(19.05,-13.97) T19(21.59,-13.97) T20(24.13,-13.97) U1(-24.13,-16.51) U2(-21.59,-16.51) U3(-19.05,-16.51) U4(-16.51,-16.51) U5(-13.97,-16.51) U6(-11.43,-16.51) U7(-8.89,-16.51) U8(-6.35,-16.51) U9(-3.81,-16.51) U10(-1.27,-16.51) U11(1.27,-16.51) U12(3.81,-16.51) U13(6.35,-16.51) U14(8.89,-16.51) U15(11.43,-16.51) U16(13.97,-16.51) U17(16.51,-16.51) U18(19.05,-16.51) U19(21.59,-16.51) U20(24.13,-16.51) V1(-24.13,-19.05) V2(-21.59,-19.05) V3(-19.05,-19.05) V4(-16.51,-19.05) V5(-13.97,-19.05) V6(-11.43,-19.05) V7(-8.89,-19.05) V8(-6.35,-19.05) V9(-3.81,-19.05) V10(-1.27,-19.05) V11(1.27,-19.05) V12(3.81,-19.05) V13(6.35,-19.05) V14(8.89,-19.05) V15(11.43,-19.05) V16(13.97,-19.05) V17(16.51,-19.05) V18(19.05,-19.05) V19(21.59,-19.05) V20(24.13,-19.05) W1(-24.13,-21.59) W2(-21.59,-21.59) W3(-19.05,-21.59) W4(-16.51,-21.59) W5(-13.97,-21.59) W6(-11.43,-21.59) W7(-8.89,-21.59) W8(-6.35,-21.59) W9(-3.81,-21.59) W10(-1.27,-21.59) W11(1.27,-21.59) W12(3.81,-21.59) W13(6.35,-21.59) W14(8.89,-21.59) W15(11.43,-21.59) W16(13.97,-21.59) W17(16.51,-21.59) W18(19.05,-21.59) W19(21.59,-21.59) W20(24.13,-21.59) Y1(-24.13,-24.13) Y2(-21.59,-24.13) Y3(-19.05,-24.13) Y4(-16.51,-24.13) Y5(-13.97,-24.13) Y6(-11.43,-24.13) Y7(-8.89,-24.13) Y8(-6.35,-24.13) Y9(-3.81,-24.13) Y10(-1.27,-24.13) Y11(1.27,-24.13) Y12(3.81,-24.13) Y13(6.35,-24.13) Y14(8.89,-24.13) Y15(11.43,-24.13) Y16(13.97,-24.13) Y17(16.51,-24.13) Y18(19.05,-24.13) Y19(21.59,-24.13) Y20(24.13,-24.13)
Top Overlay:
  circle w0.25: c-27.32,24.13 r0.125
  lines w0.2: -26.67,-26.67 -26.67,25.4 -25.4,26.67 26.67,26.67 26.67,-26.67 -26.67,-26.67

## 862A-02_L [mm] "128-Pin Quad Flat Pack 0.8 mm Pitch, IPC High Density"
height 4.07
pads (128):
  oval 1.65x0.55 smd: 1(-15.1,12.4) 2(-15.1,11.6) 3(-15.1,10.8) 4(-15.1,10) 5(-15.1,9.2) 6(-15.1,8.4) 7(-15.1,7.6) 8(-15.1,6.8) 9(-15.1,6) 10(-15.1,5.2) 11(-15.1,4.4) 12(-15.1,3.6) 13(-15.1,2.8) 14(-15.1,2) 15(-15.1,1.2) 16(-15.1,0.4) 17(-15.1,-0.4) 18(-15.1,-1.2) 19(-15.1,-2) 20(-15.1,-2.8) 21(-15.1,-3.6) 22(-15.1,-4.4) 23(-15.1,-5.2) 24(-15.1,-6) 25(-15.1,-6.8) 26(-15.1,-7.6) 27(-15.1,-8.4) 28(-15.1,-9.2) 29(-15.1,-10) 30(-15.1,-10.8) 31(-15.1,-11.6) 32(-15.1,-12.4) 65(15.1,-12.4) 66(15.1,-11.6) 67(15.1,-10.8) 68(15.1,-10) 69(15.1,-9.2) 70(15.1,-8.4) 71(15.1,-7.6) 72(15.1,-6.8) 73(15.1,-6) 74(15.1,-5.2) 75(15.1,-4.4) 76(15.1,-3.6) 77(15.1,-2.8) 78(15.1,-2) 79(15.1,-1.2) 80(15.1,-0.4) 81(15.1,0.4) 82(15.1,1.2) 83(15.1,2) 84(15.1,2.8) 85(15.1,3.6) 86(15.1,4.4) 87(15.1,5.2) 88(15.1,6) 89(15.1,6.8) 90(15.1,7.6) 91(15.1,8.4) 92(15.1,9.2) 93(15.1,10) 94(15.1,10.8) 95(15.1,11.6) 96(15.1,12.4)
  oval 0.55x1.65 smd: 33(-12.4,-15.1) 34(-11.6,-15.1) 35(-10.8,-15.1) 36(-10,-15.1) 37(-9.2,-15.1) 38(-8.4,-15.1) 39(-7.6,-15.1) 40(-6.8,-15.1) 41(-6,-15.1) 42(-5.2,-15.1) 43(-4.4,-15.1) 44(-3.6,-15.1) 45(-2.8,-15.1) 46(-2,-15.1) 47(-1.2,-15.1) 48(-0.4,-15.1) 49(0.4,-15.1) 50(1.2,-15.1) 51(2,-15.1) 52(2.8,-15.1) 53(3.6,-15.1) 54(4.4,-15.1) 55(5.2,-15.1) 56(6,-15.1) 57(6.8,-15.1) 58(7.6,-15.1) 59(8.4,-15.1) 60(9.2,-15.1) 61(10,-15.1) 62(10.8,-15.1) 63(11.6,-15.1) 64(12.4,-15.1) 97(12.4,15.1) 98(11.6,15.1) 99(10.8,15.1) 100(10,15.1) 101(9.2,15.1) 102(8.4,15.1) 103(7.6,15.1) 104(6.8,15.1) 105(6,15.1) 106(5.2,15.1) 107(4.4,15.1) 108(3.6,15.1) 109(2.8,15.1) 110(2,15.1) 111(1.2,15.1) 112(0.4,15.1) 113(-0.4,15.1) 114(-1.2,15.1) 115(-2,15.1) 116(-2.8,15.1) 117(-3.6,15.1) 118(-4.4,15.1) 119(-5.2,15.1) 120(-6,15.1) 121(-6.8,15.1) 122(-7.6,15.1) 123(-8.4,15.1) 124(-9.2,15.1) 125(-10,15.1) 126(-10.8,15.1) 127(-11.6,15.1) 128(-12.4,15.1)
Top Overlay:
  circle w0.6: c-12.85,12.85 r0.3
  circle w0.25: c-15.1,13.225 r0.125
  lines w0.2: -13.85,-13.85 13.85,-13.85 13.85,13.85 -13.85,13.85 -13.85,-13.85
Mechanical 13:
  circle w0.1: c-13.1,13.1 r0.5
  lines w0.1: -14,-14 14,-14 14,14 -14,14 -14,-14
Mechanical 15:
  lines w0.1: -0.5,0 0.5,0 ; 0,-0.5 0,0.5 ; -16,-16 16,-16 16,16 -16,16 -16,-16
3D body: height 4.07, standoff 0, extent -14,-14 14,14